# EAGLE library part FM25V10 (library cypress)
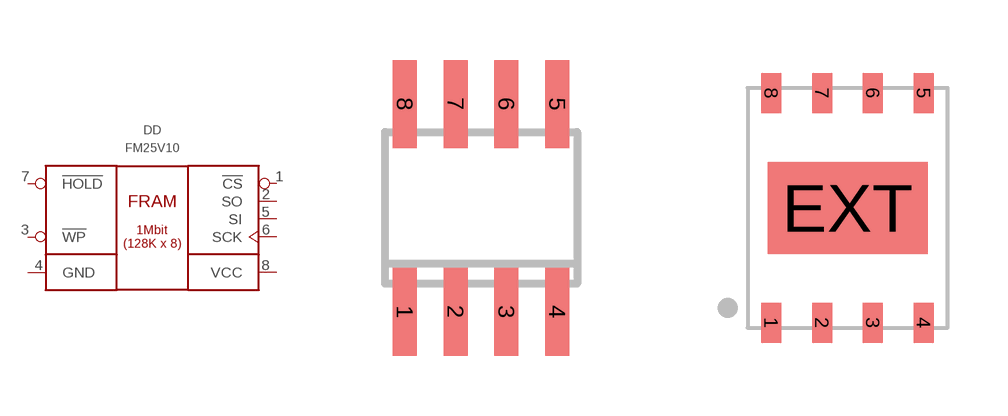
[diagram p1: symbol with the pads of SO08; footprints SO08, DFN-8]

Designator prefix DD

## FM25V10-G  [SO08]
1  !CS  in
2  SO  out
3  !WP  in
4  GND  pwr
5  SI  in
6  SCK  in
7  !HOLD  in
8  VCC  pwr

## FM25V10-GTR  [SO08]
Pads as for SO08

## FM25V10-DG  [DFN-8]
Pads as for SO08

## FM25V10-DGTR  [DFN-8]
Pads as for SO08

## Footprint SO08 (pad centres in mm)
SMALL OUTLINE INTEGRATED CIRCUIT body 3.9 mm/JEDEC MS-012AA
smd 0.6 x 2.2: 1 -1.905,-2.6; 2 -0.635,-2.6; 3 0.635,-2.6; 4 1.905,-2.6; 5 1.905,2.6; 6 0.635,2.6; 7 -0.635,2.6; 8 -1.905,2.6

## Footprint DFN-8 (pad centres in mm)
smd 0.5 x 1: 1 -1.905,-2.875; 2 -0.635,-2.875; 3 0.635,-2.875; 4 1.905,-2.875; 5 1.905,2.875; 6 0.635,2.875; 7 -0.635,2.875; 8 -1.905,2.875
smd 4 x 2.3: EXT 0,0